# Altium footprint library NewPCBlib.PcbLib: 27 footprints (part 1 of 2)
Each footprint in its own frame and in the unit in brackets; x right, y up, seen from the top. Pads: shape width x height; smd on the part's side, far side on the other; paste and mask are expansions set on the pad; w line width, h text height; cw(c..) or ccw(c..) is an arc to the next point about the centre after c.
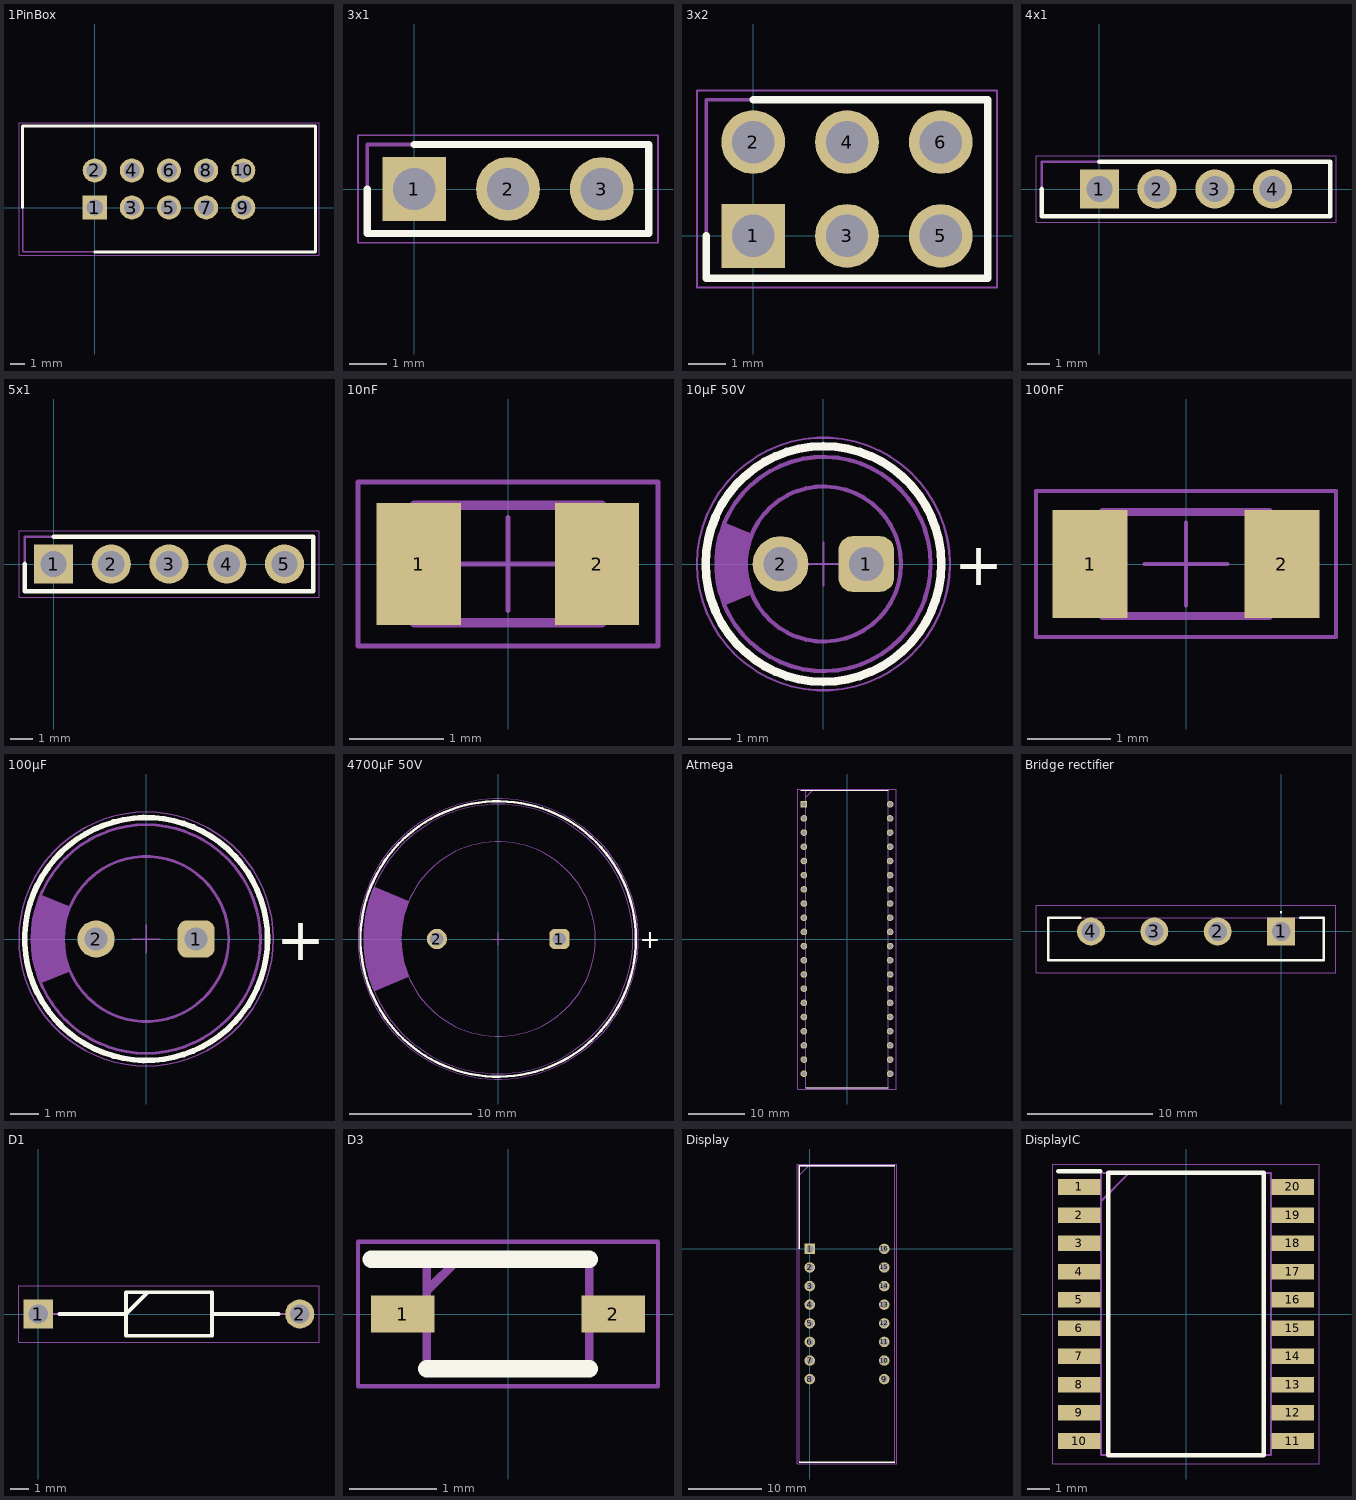
[diagram p0: the footprints below, top view; thin cyan lines are the x and y axes]

## 1PinBox [mm]
pads (10):
  rect 1.65x1.65 hole 1.1: 1(0,0)
  round 1.65 hole 1.1: 2(0,2.54) 3(2.54,0) 4(2.54,2.54) 5(5.08,0) 6(5.08,2.54) 7(7.62,0) 8(7.62,2.54) 9(10.16,0) 10(10.16,2.54)
Top Overlay:
  lines w0.2: -4.93,0 -4.93,5.565 15.09,5.565 15.09,-3.025 0,-3.025
Mechanical 13:
  lines w0.1: -4.93,-3.025 15.09,-3.025 15.09,5.565 -4.93,5.565 -4.93,-3.025
Mechanical 15:
  lines w0.05: -5.18,-3.275 15.34,-3.275 15.34,5.815 -5.18,5.815 -5.18,-3.275
3D body "N2510-6002RB.stp": height 9.91, standoff -2.84, extent -4.93,-3.025 15.09,5.565

## 3x1 [mm]
pads (3):
  rect 1.725x1.725 hole 1.15: 1(0,0)
  round 1.725 hole 1.15: 2(2.54,0) 3(5.08,0)
Top Overlay:
  lines w0.2: -1.27,0 -1.27,-1.205 6.35,-1.205 6.35,1.205 0,1.205
Mechanical 13:
  lines w0.1: -1.27,-1.205 -1.27,1.205 6.35,1.205 6.35,-1.205 -1.27,-1.205
Mechanical 15:
  lines w0.05: -1.52,-1.455 -1.52,1.455 6.6,1.455 6.6,-1.455 -1.52,-1.455
3D body "10129378-903001BLF.stp": height 8.58, standoff -3.3, extent -1.27,-1.205 6.35,1.205

## 3x2 [mm]
pads (6):
  rect 1.725x1.725 hole 1.15: 1(0,0)
  round 1.725 hole 1.15: 2(0,2.54) 3(2.54,0) 4(2.54,2.54) 5(5.08,0) 6(5.08,2.54)
Top Overlay:
  lines w0.2: -1.27,0 -1.27,-1.145 6.35,-1.145 6.35,3.685 0,3.685
Mechanical 13:
  lines w0.1: -1.27,-1.145 -1.27,3.685 6.35,3.685 6.35,-1.145 -1.27,-1.145
Mechanical 15:
  lines w0.05: -1.52,-1.395 -1.52,3.935 6.6,3.935 6.6,-1.395 -1.52,-1.395
3D body "10129381-906002BLF.stp": height 8.58, standoff -2.54, extent -1.27,-1.145 6.35,3.685

## 4x1 [mm]
pads (4):
  rect 1.725x1.725 hole 1.15: 1(0,0)
  round 1.725 hole 1.15: 2(2.54,0) 3(5.08,0) 4(7.62,0)
Top Overlay:
  lines w0.2: -2.54,0 -2.54,-1.205 10.16,-1.205 10.16,1.205 0,1.205
Mechanical 13:
  lines w0.1: -2.54,-1.205 -2.54,1.205 10.16,1.205 10.16,-1.205 -2.54,-1.205
Mechanical 15:
  lines w0.05: -2.79,-1.455 -2.79,1.455 10.41,1.455 10.41,-1.455 -2.79,-1.455
3D body "10129378-904001BLF.stp": height 8.58, standoff -3.3, extent -2.54,-1.205 10.16,1.205

## 5x1 [mm]
pads (5):
  rect 1.725x1.725 hole 1.15: 1(0,0)
  round 1.725 hole 1.15: 2(2.54,0) 3(5.08,0) 4(7.62,0) 5(10.16,0)
Top Overlay:
  lines w0.2: -1.27,0 -1.27,-1.205 11.43,-1.205 11.43,1.205 0,1.205
Mechanical 13:
  lines w0.1: -1.27,-1.205 11.43,-1.205 11.43,1.205 -1.27,1.205 -1.27,-1.205
Mechanical 15:
  lines w0.05: -1.52,-1.455 11.68,-1.455 11.68,1.455 -1.52,1.455 -1.52,-1.455
3D body "10129378-905001BLF.stp": height 8.58, standoff -3.3, extent -1.27,-1.205 11.43,1.205

## 10nF [mm] "Ceramic Capacitors, body 2x1.25mm"
height 0.9
pads (2):
  rect 0.9x1.3 smd: 1(-0.95,0) 2(0.95,0)
Top 3D Body:
  lines w0.1: -1,-0.625 -1,0.625 1,0.625 1,-0.625 -1,-0.625
Top Courtyard:
  lines w0.05: -0.5,0 0.5,0 ; 0,-0.5 0,0.5 ; -1.6,-0.875 -1.6,0.875 1.6,0.875 1.6,-0.875 -1.6,-0.875
Top Assembly:
  lines w0.1: -1,-0.625 1,-0.625 1,0.625 -1,0.625 -1,-0.625
  text ".Designator" at -3.499,-0.233 h0.7
3D body "CAPC2012X08N.step": height 0.8, standoff 0, extent -1,-0.625 1,0.625

## 10µF 50V [mm] "Aluminum Electrolytic Capacitors, 5x11mm"
height 11
pads (2):
  rrect50% 1.3x1.3 hole 0.8: 1(1,0)
  round 1.3 hole 0.8: 2(-1,0)
Top Overlay:
  circle w0.2: c0,0 r2.75
  text "+" at 3.05,-0.5 h1
Top 3D Body:
  circle w0.1: c0,0 r2.5
  circle w0.1: c0,0 r1.81
  region: -2.305,-0.968 -1.668,-0.702 -1.669,-0.701 -1.73,-0.532 -1.801,-0.18 -1.801,0.18 -1.73,0.532 -1.669,0.701 -1.668,0.702 -2.305,0.968 -2.402,0.738 -2.5,0.249 -2.5,-0.249 -2.402,-0.738
Top Courtyard:
  circle w0.05: c0,0 r2.95
  lines w0.05: -0.5,0 0.5,0 ; 0,-0.5 0,0.5
Top Assembly:
  circle w0.1: c0,0 r2.5
  circle w0.1: c0,0 r1.81
  region: -2.305,-0.968 -1.668,-0.702 -1.669,-0.701 -1.73,-0.532 -1.801,-0.18 -1.801,0.18 -1.73,0.532 -1.669,0.701 -1.668,0.702 -2.305,0.968 -2.402,0.738 -2.5,0.249 -2.5,-0.249 -2.402,-0.738
  text ".Designator" at -4.998,-0.333 h1
3D body "5x11x2x0.5.stp": height 11.31, standoff -19.91, extent -2.49,-2.5 2.5,2.5

## 100nF [mm] "Ceramic Capacitors, body 2x1.25mm"
height 0.9
pads (2):
  rect 0.9x1.3 smd: 1(-1.15,0) 2(1.15,0)
Top 3D Body:
  lines w0.1: -1,-0.625 -1,0.625 1,0.625 1,-0.625 -1,-0.625
Top Courtyard:
  lines w0.05: -0.5,0 0.5,0 ; 0,-0.5 0,0.5 ; -1.8,-0.875 1.8,-0.875 1.8,0.875 -1.8,0.875 -1.8,-0.875
Top Assembly:
  lines w0.1: -1,-0.625 1,-0.625 1,0.625 -1,0.625 -1,-0.625
  text ".Designator" at -3.499,-0.233 h0.7
3D body "CAPC2012X08N.step": height 0.8, standoff 0, extent -1,-0.625 1,0.625

## 100µF [mm] "Aluminum Electrolytic Capacitors, 8x11.5mm"
height 11.5
pads (2):
  rrect50% 1.3x1.3 hole 0.8: 1(1.75,0)
  round 1.3 hole 0.8: 2(-1.75,0)
Top Overlay:
  circle w0.2: c0,0 r4.25
  text "+" at 4.55,-0.75 h1.5
Top 3D Body:
  circle w0.1: c0,0 r2.89
  circle w0.1: c0,0 r4
  region: -3.685,-1.557 -3.762,-1.372 -3.881,-0.99 -3.96,-0.598 -4,-0.2 -4,0.2 -3.96,0.598 -3.881,0.99 -3.762,1.372 -3.685,1.557 -2.662,1.125 -2.662,1.124 -2.715,0.99 -2.8,0.714 -2.858,0.431 -2.886,0.144 -2.886,-0.144 -2.858,-0.431 -2.8,-0.714 -2.715,-0.99 -2.662,-1.124 -2.662,-1.125
Top Courtyard:
  circle w0.05: c0,0 r4.45
  lines w0.05: -0.5,0 0.5,0 ; 0,-0.5 0,0.5
Top Assembly:
  circle w0.1: c0,0 r2.89
  circle w0.1: c0,0 r4
  region: -3.685,-1.557 -3.762,-1.372 -3.881,-0.99 -3.96,-0.598 -4,-0.2 -4,0.2 -3.96,0.598 -3.881,0.99 -3.762,1.372 -3.685,1.557 -2.662,1.125 -2.662,1.124 -2.715,0.99 -2.8,0.714 -2.858,0.431 -2.886,0.144 -2.886,-0.144 -2.858,-0.431 -2.8,-0.714 -2.715,-0.99 -2.662,-1.124 -2.662,-1.125
  text ".Designator" at -5.998,-0.4 h1.2
3D body "8x11.5x3.5x0.5.stp": height 11.81, standoff -19.91, extent -3.99,-4 4,3.999

## 4700µF 50V [mm] "Aluminum Electrolytic Capacitors, 22x41mm"
height 41
pads (2):
  rrect50% 1.65x1.65 hole 1.1: 1(5,0)
  round 1.65 hole 1.1: 2(-5,0)
Top Overlay:
  circle w0.2: c0,0 r11.25
  text "+" at 11.55,-0.75 h1.5
Top 3D Body:
  circle w0.1: c0,0 r7.94
  circle w0.1: c0,0 r11
  region: -10.135,-4.275 -7.31,-3.099 -7.312,-3.094 -7.458,-2.725 -7.693,-1.966 -7.851,-1.187 -7.93,-0.397 -7.93,0.397 -7.851,1.187 -7.693,1.966 -7.458,2.725 -7.312,3.094 -7.31,3.099 -10.135,4.275 -10.277,3.938 -10.517,3.246 -10.709,2.54 -10.854,1.822 -10.951,1.097 -11,0.366 -11,-0.366 -10.951,-1.097 -10.854,-1.822 -10.709,-2.54 -10.517,-3.246 -10.277,-3.938
Top Courtyard:
  circle w0.05: c0,0 r11.45
  lines w0.05: -0.5,0 0.5,0 ; 0,-0.5 0,0.5
Top Assembly:
  circle w0.1: c0,0 r7.94
  circle w0.1: c0,0 r11
  region: -10.135,-4.275 -7.31,-3.099 -7.312,-3.094 -7.458,-2.725 -7.693,-1.966 -7.851,-1.187 -7.93,-0.397 -7.93,0.397 -7.851,1.187 -7.693,1.966 -7.458,2.725 -7.312,3.094 -7.31,3.099 -10.135,4.275 -10.277,3.938 -10.517,3.246 -10.709,2.54 -10.854,1.822 -10.951,1.097 -11,0.366 -11,-0.366 -10.951,-1.097 -10.854,-1.822 -10.709,-2.54 -10.517,-3.246 -10.277,-3.938
  text ".Designator" at -7.498,-0.5 h1.5
3D body "22x41x10x0.8.stp": height 41.31, standoff -19.91, extent -10.99,-11 11,10.996

## Atmega [mm]
pads (40):
  rect 1.184x1.184 hole 0.784: 1(-7.715,24.13)
  round 1.184 hole 0.784: 2(-7.715,21.59) 3(-7.715,19.05) 4(-7.715,16.51) 5(-7.715,13.97) 6(-7.715,11.43) 7(-7.715,8.89) 8(-7.715,6.35) 9(-7.715,3.81) 10(-7.715,1.27) 11(-7.715,-1.27) 12(-7.715,-3.81) 13(-7.715,-6.35) 14(-7.715,-8.89) 15(-7.715,-11.43) 16(-7.715,-13.97) 17(-7.715,-16.51) 18(-7.715,-19.05) 19(-7.715,-21.59) 20(-7.715,-24.13) 21(7.715,-24.13) 22(7.715,-21.59) 23(7.715,-19.05) 24(7.715,-16.51) 25(7.715,-13.97) 26(7.715,-11.43) 27(7.715,-8.89) 28(7.715,-6.35) 29(7.715,-3.81) 30(7.715,-1.27) 31(7.715,1.27) 32(7.715,3.81) 33(7.715,6.35) 34(7.715,8.89) 35(7.715,11.43) 36(7.715,13.97) 37(7.715,16.51) 38(7.715,19.05) 39(7.715,21.59) 40(7.715,24.13)
Top Overlay:
  lines w0.2: -8.307,26.606 7.366,26.606 ; -7.366,-26.606 7.366,-26.606
Mechanical 13:
  lines w0.1: -7.366,25.336 -6.096,26.606 ; -7.366,-26.606 7.366,-26.606 7.366,26.606 -7.366,26.606 -7.366,-26.606
Mechanical 15:
  lines w0.05: -8.78,-26.856 8.78,-26.856 8.78,26.856 -8.78,26.856 -8.78,-26.856
3D body "ATMEGA4809-PF.stp": height 6.35, standoff -3.5, extent -7.861,-25.876 7.861,25.876

## Bridge rectifier [mm]
pads (4):
  rect 2.235x2.235 hole 1.49: 1(0,0)
  round 2.235 hole 1.49: 2(-5.08,0) 3(-10.16,0) 4(-15.24,0)
Top Overlay:
  lines w0.1: 0,1.5 ccw(c0,1.55) 0,1.6 ccw(c0,1.55) 0,1.5
  lines w0.2: -16.08,1.108 -18.645,1.108 -18.645,-2.322 3.405,-2.322 3.405,1.108 1.52,1.108
Mechanical 13:
  lines w0.1: -18.645,-2.322 -18.645,1.108 3.405,1.108 3.405,-2.322 -18.645,-2.322
Mechanical 15:
  lines w0.1: -19.645,-3.322 -19.645,2.117 4.405,2.117 4.405,-3.322 -19.645,-3.322
3D body "GBU6J-E3_45.stp": height 18.9, standoff -5, extent -18.645,-2.322 3.405,1.108

## D1 [mm]
pads (2):
  rect 1.575x1.575 hole 1.05: 1(0,0)
  round 1.575 hole 1.05: 2(14.1,0)
Top Overlay:
  lines w0.2: 1.138,0 4.732,0 5.912,1.18 ; 9.368,0 12.962,0 ; 4.732,-1.18 9.368,-1.18 9.368,1.18 4.732,1.18 4.732,-1.18
Mechanical 13:
  lines w0.1: 0,0 4.732,0 5.912,1.18 ; 9.368,0 14.1,0 ; 4.732,-1.18 9.367,-1.18 9.367,1.18 4.732,1.18 4.732,-1.18
Mechanical 15:
  lines w0.05: -1.038,-1.53 15.137,-1.53 15.137,1.53 -1.038,1.53 -1.038,-1.53
3D body "1N4007G-T.stp": height 2.71, standoff -2.72, extent -0.429,-1.357 14.507,1.357

## D3 [mm]
pads (2):
  rect 0.72x0.42 smd: 1(-1.2,0) 2(1.2,0)
Top Overlay:
  lines w0.2: -1.56,0.625 0.925,0.625 ; -0.925,-0.625 0.925,-0.625
Mechanical 13:
  lines w0.1: -0.925,0.265 -0.565,0.625 ; -0.925,-0.625 0.925,-0.625 0.925,0.625 -0.925,0.625 -0.925,-0.625
Mechanical 15:
  lines w0.05: -1.71,-0.825 1.71,-0.825 1.71,0.825 -1.71,0.825 -1.71,-0.825
3D body "1N4148WS_R1_00001.stp": height 0.95, standoff 0, extent -1.25,-0.625 1.25,0.625

## Display [mm]
pads (16):
  rect 1.425x1.425 hole 0.95: 1(0,0)
  round 1.425 hole 0.95: 2(0,-2.54) 3(0,-5.08) 4(0,-7.62) 5(0,-10.16) 6(0,-12.7) 7(0,-15.24) 8(0,-17.78) 9(10.16,-17.78) 10(10.16,-15.24) 11(10.16,-12.7) 12(10.16,-10.16) 13(10.16,-7.62) 14(10.16,-5.08) 15(10.16,-2.54) 16(10.16,0)
Top Overlay:
  lines w0.2: -1.445,-29.115 11.605,-29.115 ; -1.445,0 -1.445,11.335 11.605,11.335
Mechanical 13:
  lines w0.1: -1.445,10.065 -0.175,11.335 ; -1.445,-29.115 11.605,-29.115 11.605,11.335 -1.445,11.335 -1.445,-29.115
Mechanical 15:
  lines w0.05: -1.695,-29.365 11.855,-29.365 11.855,11.585 -1.695,11.585 -1.695,-29.365

## DisplayIC [mm]
pads (20):
  rect 1.9x0.7 smd: 1(-4.8,5.715) 2(-4.8,4.445) 3(-4.8,3.175) 4(-4.8,1.905) 5(-4.8,0.635) 6(-4.8,-0.635) 7(-4.8,-1.905) 8(-4.8,-3.175) 9(-4.8,-4.445) 10(-4.8,-5.715) 11(4.8,-5.715) 12(4.8,-4.445) 13(4.8,-3.175) 14(4.8,-1.905) 15(4.8,-0.635) 16(4.8,0.635) 17(4.8,1.905) 18(4.8,3.175) 19(4.8,4.445) 20(4.8,5.715)
Top Overlay:
  lines w0.2: -5.75,6.415 -3.85,6.415 ; -3.5,-6.35 -3.5,6.35 3.5,6.35 3.5,-6.35 -3.5,-6.35
Mechanical 13:
  lines w0.1: -3.825,5.08 -2.555,6.35 ; -3.825,-6.35 -3.825,6.35 3.825,6.35 3.825,-6.35 -3.825,-6.35
Mechanical 15:
  lines w0.05: -6,-6.75 -6,6.75 6,6.75 6,-6.75 -6,-6.75
3D body "TM1637__SOP_.stp": height 2.8, standoff 0, extent -5.225,-6.35 5.225,6.35